# EAGLE library part ADAFRUIT-SD-CARD-BREAKOUT-BOARD (library BOBs)
SD Card Breakout
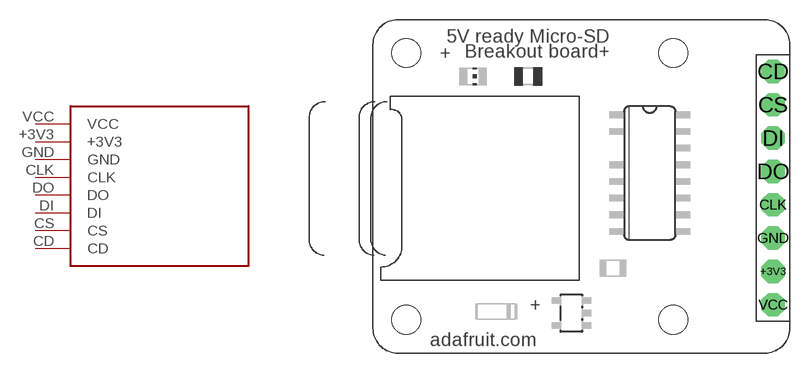
[diagram p16: symbol with the pads of ADAFRUIT-SD-CARD-BREAKOUT-BOARD; footprint ADAFRUIT-SD-CARD-BREAKOUT-BOARD]

Designator prefix -

## ADAFRUIT-SD-CARD-BREAKOUT-BOARD-BOB (DIST: adafruit; DISTPN: 254)  [ADAFRUIT-SD-CARD-BREAKOUT-BOARD]
+3V3  +3V3
CD  CD
CLK  CLK
CS  CS
DI  DI
DO  DO
GND  GND
VCC  VCC

## Footprint ADAFRUIT-SD-CARD-BREAKOUT-BOARD (pad centres in mm)
drill 1.016 pad 1.778 octagon: +3V3 30.48,6.223; CD 30.48,21.463; CLK 30.48,11.303; CS 30.48,18.923; DI 30.48,16.383; DO 30.48,13.843; GND 30.48,8.763; VCC 30.48,3.683
hole 2.2 at 2.54,22.86
hole 2.2 at 2.54,2.54
hole 2.2 at 22.86,22.86
hole 2.2 at 22.86,2.54